# EAGLE library part BCM56DSF (library SamacSys_Parts)
Trans GP BJT NPN 80V 1A 500mW Automotive 6-Pin TSOP T/R Source: Datasheet <https://componentsearchengine.com/Datasheets/1/BCM56DSF.pdf>
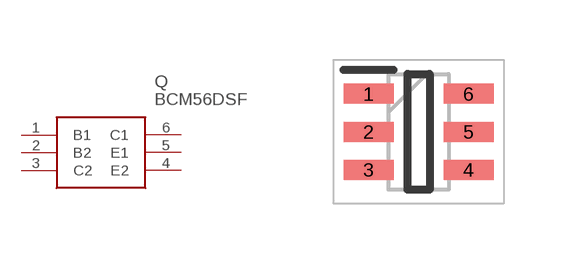
[diagram p5: symbol with the pads of SOT95P275X110-6N; footprint SOT95P275X110-6N]

Designator prefix Q

## BCM56DSF (Description: Trans GP BJT NPN 80V 1A 500mW Automotive 6-Pin TSOP T/R; Height: 1.1mm; Manufacturer_Name: Nexperia; Manufacturer_Part_Number: BCM56DSF; Mouser_Part_Number: 771-BCM56DSF; Mouser_Price-Stock: https://www.mouser.com/Search/Refine.aspx?Keyword=771-BCM56DSF)  [SOT95P275X110-6N]
1  B1
2  B2
3  C2
4  E2
5  E1
6  C1

## Footprint SOT95P275X110-6N (pad centres in mm)
SOT457 (SC-74
smd 1.25 x 0.5: 1 -1.25,0.95; 2 -1.25,0; 3 -1.25,-0.95; 4 1.25,-0.95; 5 1.25,0; 6 1.25,0.95